# EAGLE library part FPC08 (library we-con)
FPC/ZIF Connector
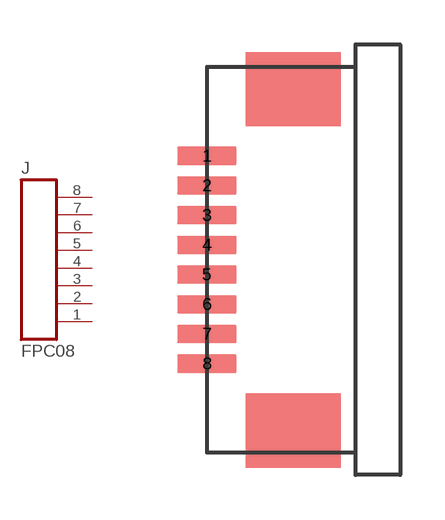
[diagram p42: symbol with the pads of FPC08-1.0; footprint FPC08-1.0]

Designator prefix J

## FPC08  [FPC08-1.0]
1  1  pas
2  2  pas
3  3  pas
4  4  pas
5  5  pas
6  6  pas
7  7  pas
8  8  pas

## Footprint FPC08-1.0 (pad centres in mm)
8 Pins 1mm
smd 2 x 0.6: 1 -2.54,3.5; 2 -2.54,2.5; 3 -2.54,1.5; 4 -2.54,0.5; 5 -2.54,-0.5; 6 -2.54,-1.5; 7 -2.54,-2.5; 8 -2.54,-3.5